# Altium footprint library RELAY.PcbLib: 4 footprints
Each footprint in its own frame and in the unit in brackets; x right, y up, seen from the top. Pads: shape width x height; smd on the part's side, far side on the other; paste and mask are expansions set on the pad; w line width, h text height; cw(c..) or ccw(c..) is an arc to the next point about the centre after c.
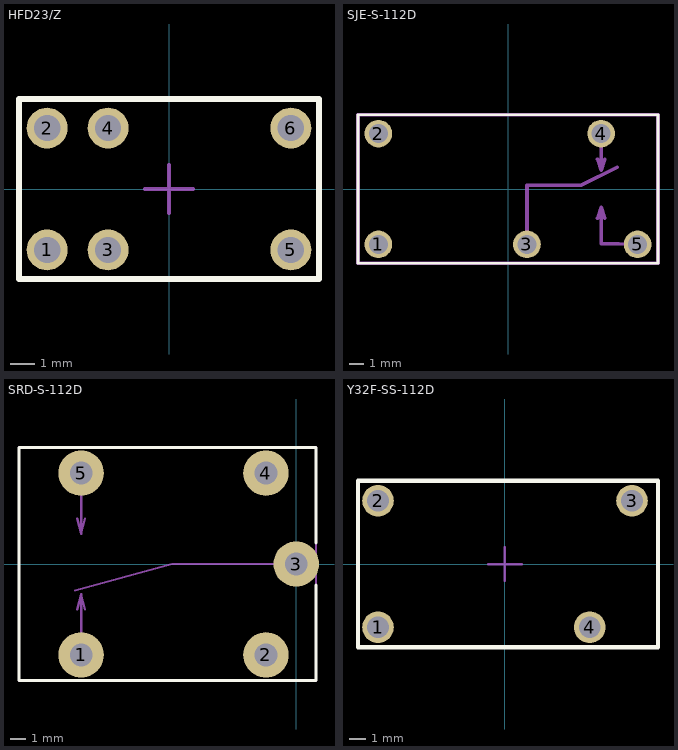
[diagram p0: the footprints below, top view; thin cyan lines are the x and y axes]

## HFD23/Z [mm] "SUBMINIATURE INTERMEDIATE POWER RELAY"
height 15.5
pads (6):
  round 1.7 hole 1.1 paste-25.4: 1(-5.08,-2.54) 2(-5.08,2.54) 3(-2.54,-2.54) 4(-2.54,2.54) 5(5.08,-2.54) 6(5.08,2.54)
Top Overlay:
  lines w0.254: -6.25,-3.75 6.25,-3.75 6.25,3.75 -6.25,3.75 -6.25,-3.75
Top Assembly:
  circle w0.25: c-5.08,2.54 r0.354
  circle w0.25: c-2.54,2.54 r0.354
  circle w0.25: c-5.08,-2.54 r0.354
  circle w0.25: c-2.54,-2.54 r0.354
  circle w0.25: c5.08,2.54 r0.354
  circle w0.25: c5.08,-2.54 r0.354
  lines w0.15: -6.25,-3.75 6.25,-3.75 6.25,3.75 -6.25,3.75 -6.25,-3.75
Top Component Outline:
  lines w0.15: -1,0 1,0 ; 0,-1 0,1
3D body "User Library-HFD23.STEP": height 10.07, standoff -3.44, extent -6.25,-3.75 6.25,3.75

## SJE-S-112D [mm]
pads (5):
  round 1.9 hole 1.3 paste-25.4: 1(-8.9,-3.8) 2(-8.9,3.8) 3(1.3,-3.8) 4(6.4,3.8) 5(8.9,-3.8)
Top Overlay:
  lines w0.2: -10.3,-5.1 10.3,-5.1 10.3,5.1 -10.3,5.1 -10.3,-5.1
Top Assembly:
  circle w0.25: c-8.9,3.8 r0.354
  circle w0.25: c-8.9,-3.8 r0.354
  circle w0.25: c1.3,-3.8 r0.354
  circle w0.25: c6.4,3.8 r0.354
  circle w0.25: c8.9,-3.8 r0.354
  lines w0.25: 1.3,-3.8 1.3,0.25 5,0.25 7.5,1.5 ; 6.15,-2 6.4,-1.25 ; 6.15,2.05 6.4,1.3 ; 6.4,-3.75 6.4,-1.25 ; 6.4,3.8 6.4,1.3 ; 6.4,-3.742 8.9,-3.8 ; 6.65,-2 6.4,-1.25 ; 6.65,2.05 6.4,1.3 ; -10.3,-5.1 -10.3,5.1 10.3,5.1 10.3,-5.1 -10.3,-5.1
3D body: height 15.5, standoff 0, extent -10.3,-5.1 10.3,5.1

## SRD-S-112D [mm]
pads (5):
  round 3 hole 1.5: 1(-14.2,-6) 2(-2,-6) 3(0,0) 4(-2,6) 5(-14.2,6)
Top Overlay:
  lines w0.2: 1.3,-1.4 1.3,-7.7 -18.3,-7.7 -18.3,7.7 1.3,7.7 1.3,1.4
Top Assembly:
  circle w0.15: c-2,6 r0.354
  circle w0.15: c0,0 r0.354
  circle w0.15: c-2,-6 r0.354
  circle w0.15: c-14.2,-6 r0.354
  circle w0.15: c-14.2,6 r0.354
  lines w0.15: -14.6,-1.75 -8.2,0 -0.1,0 ; -14.45,-3 -14.2,-2 ; -14.45,3 -14.2,2 ; -14.2,-6 -14.2,-2 ; -14.2,6 -14.2,2 ; -13.95,-3 -14.2,-2 ; -13.95,3 -14.2,2 ; -18.3,-7.7 -18.3,7.7 1.3,7.7 1.3,-7.7 -18.3,-7.7
3D body "User Library-Tianbo Relay ( HJR-3FF-S-Z).STEP": height 15.56, standoff -2.15, extent -17.7,-7.8 1.3,7.7

## Y32F-SS-112D [mm] "SUBMINIATURE INTERMEDIATE POWER RELAY"
height 15.5
pads (4):
  round 1.9 hole 1.3 paste-25.4: 1(-7.62,-3.8) 2(-7.62,3.8) 3(7.62,3.8) 4(5.08,-3.8)
Top Overlay:
  lines w0.254: -8.82,-5 -8.82,5 9.18,5 9.18,-5 -8.82,-5
Top Assembly:
  circle w0.25: c5.08,-3.8 r0.354
  circle w0.25: c7.62,3.8 r0.354
  circle w0.25: c-7.62,-3.8 r0.354
  circle w0.25: c-7.62,3.8 r0.354
  lines w0.15: -8.82,-5 -8.82,5 9.18,5 9.18,-5 -8.82,-5
Top Component Outline:
  lines w0.15: -1,0 1,0 ; 0,-1 0,1
3D body "RELAY_4_PIN__HONGFA_BLACK.STEP": height 15.1, standoff -2.2, extent -8.82,-5 9.18,5